# Altium footprint library 1206P.PcbLib: 1 footprints
Each footprint in its own frame and in the unit in brackets; x right, y up, seen from the top. Pads: shape width x height; smd on the part's side, far side on the other; paste and mask are expansions set on the pad; w line width, h text height; cw(c..) or ccw(c..) is an arc to the next point about the centre after c.
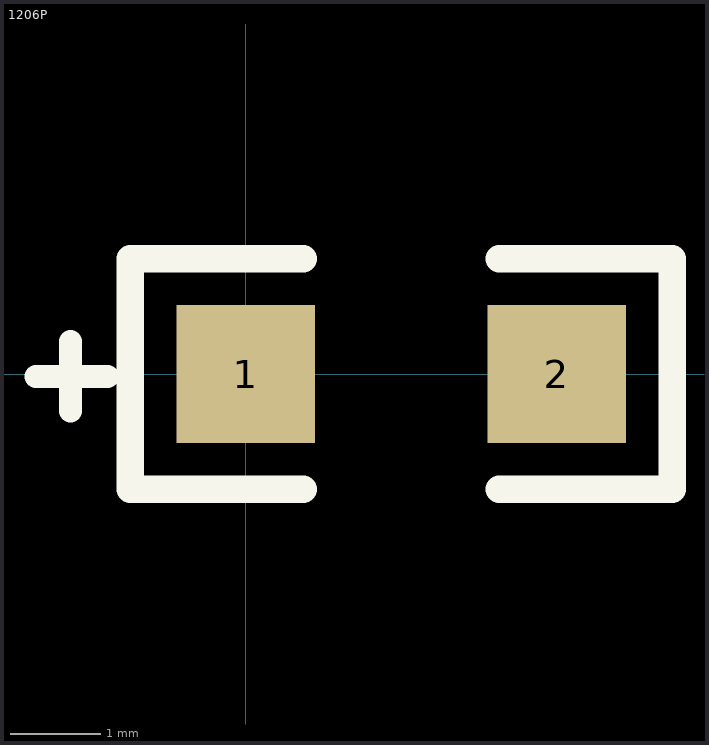
[diagram p0: the footprint, top view; thin cyan lines are the x and y axes]

## 1206P [mil]
height 50
pads (2):
  rect 60x60 smd: 1(0,0) 2(135,0)
TopOverlay:
  lines w10: -91,-1 -76,-1 -60,-1 ; -76,-16 -76,14
  lines w12: 25,-50 -50,-50 -50,50 25,50 ; 110,-50 185,-50 185,50 110,50
Mechanical4:
  text ".045" at 0,0 h1
3D body: height 40.05, standoff 0.6, extent 4.12,-31.62 130.1,31.37